# Altium footprint library CONN_HDR_2.54MM_ST.PcbLib: 159 footprints (part 9 of 13)
Each footprint in its own frame and in the unit in brackets; x right, y up, seen from the top. Pads: shape width x height; smd on the part's side, far side on the other; paste and mask are expansions set on the pad; w line width, h text height; cw(c..) or ccw(c..) is an arc to the next point about the centre after c.
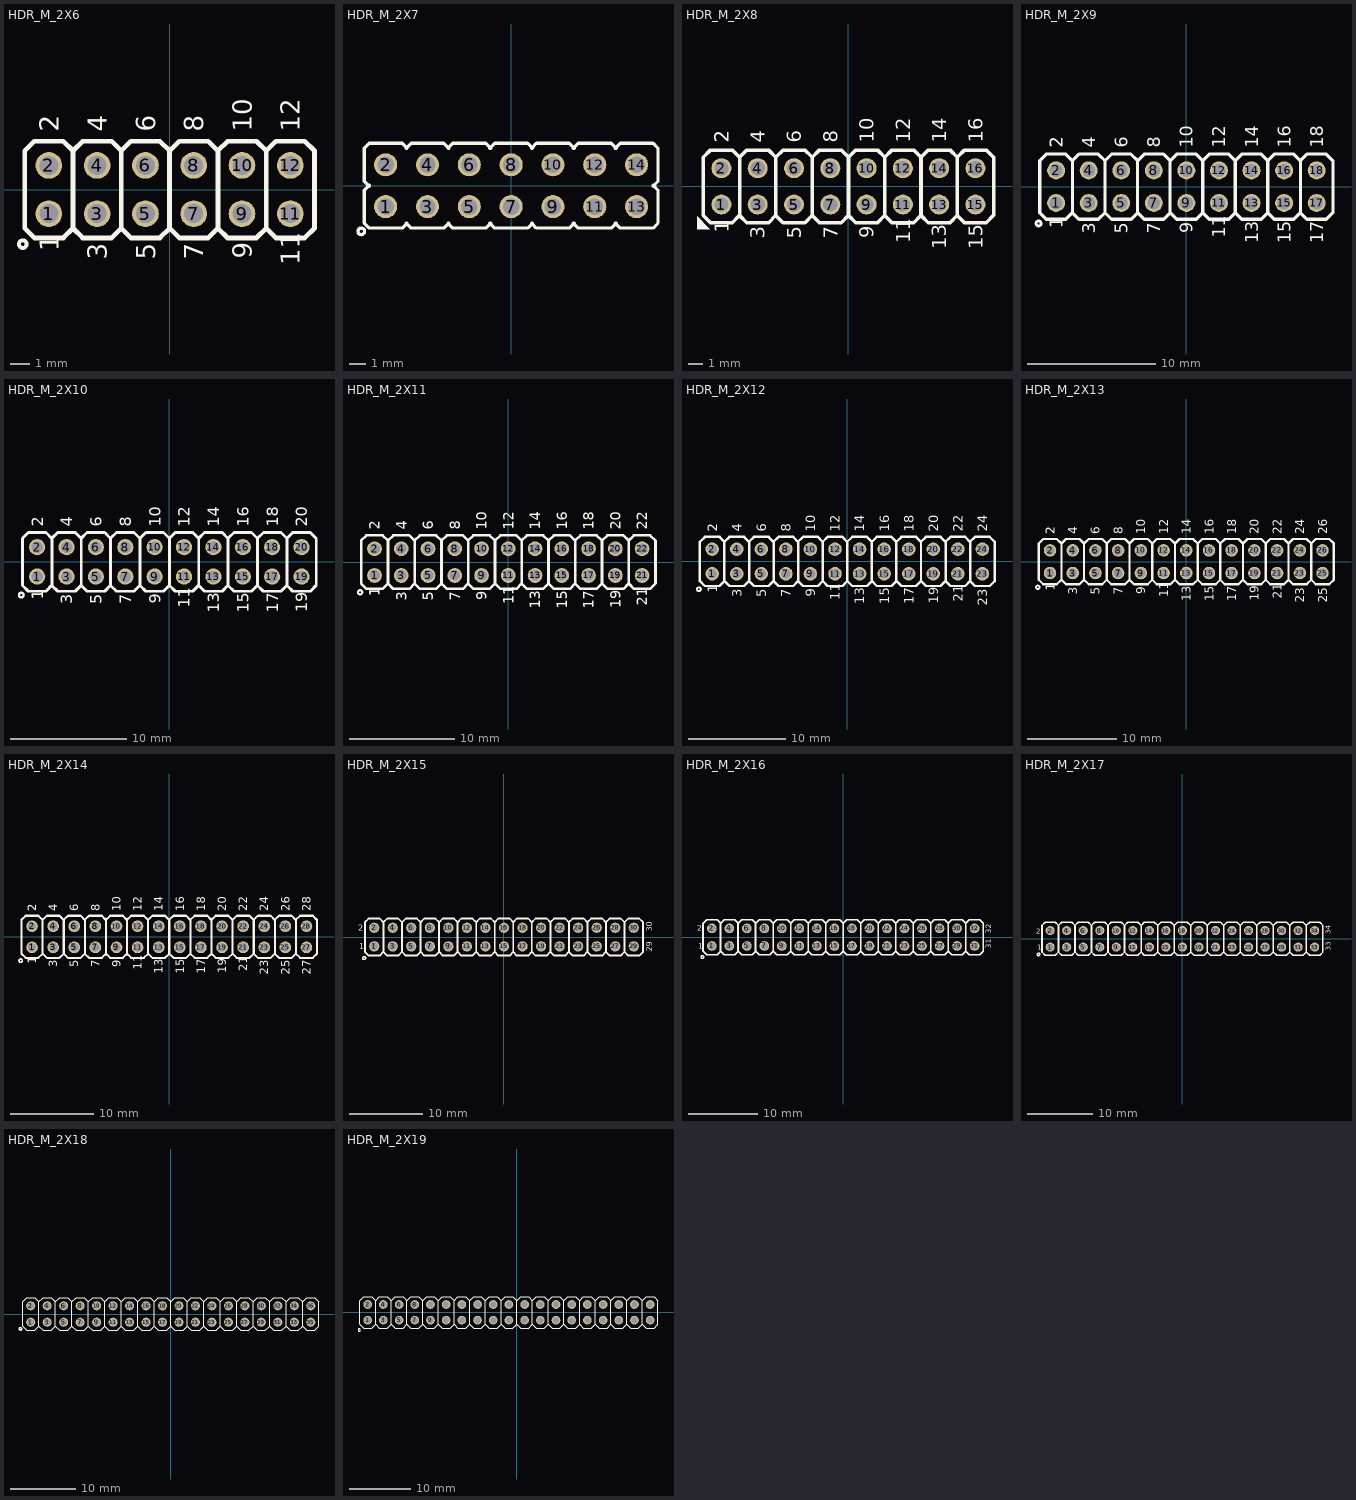
[diagram p8: the footprints below, top view; thin cyan lines are the x and y axes]

## HDR_M_2X6 [mm] "Male Header 2X06 with 2.54 mm Pitch"
pads (12):
  round 1.4 / inner round 1.4 / far side oval 1.4x2.2 hole 1: 1(-6.35,-1.27) 2(-6.35,1.27) 3(-3.81,-1.27) 4(-3.81,1.27) 5(-1.27,-1.27) 6(-1.27,1.27) 7(1.27,-1.27) 8(1.27,1.27) 9(3.81,-1.27) 10(3.81,1.27) 11(6.35,-1.27) 12(6.35,1.27)
TopOverlay:
  circle w0.2: c-7.72,-2.87 r0.2
  lines w0.254: -5.08,-2.032 -4.573,-2.538 -3.048,-2.538 -2.54,-2.03 -2.54,2.034 -2.032,2.542 -0.509,2.542 0,2.032 ; -5.08,2.032 -5.589,2.542 -7.112,2.542 -7.62,2.034 -7.62,-2.032 -7.113,-2.538 -5.588,-2.538 -5.08,-2.03 -5.08,2.034 -4.572,2.542 -3.049,2.542 -2.54,2.032 ; -2.54,-2.032 -2.033,-2.538 -0.508,-2.538 0,-2.03 0,2.034 0.508,2.542 2.031,2.542 2.54,2.032 ; 0,-2.032 0.507,-2.538 2.032,-2.538 2.54,-2.03 2.54,2.034 3.048,2.542 4.571,2.542 5.08,2.032 ; 2.54,-2.032 3.047,-2.538 4.572,-2.538 5.08,-2.03 5.08,2.034 5.588,2.542 7.111,2.542 7.62,2.032 ; 5.08,-2.032 5.587,-2.538 7.112,-2.538 7.62,-2.03 7.62,2.034
  text "1" at -5.842,-3.253 h1
  text "2" at -5.842,3.048 h1
  text "2" at -5.842,3.048 h1
  text "1" at -5.842,-3.253 h1
  text "4" at -3.302,3.048 h1
  text "3" at -3.302,-3.682 h1
  text "6" at -0.762,3.048 h1
  text "5" at -0.762,-3.682 h1
  text "8" at 1.778,3.048 h1
  text "7" at 1.778,-3.682 h1
  text "10" at 4.318,3.048 h1
  text "9" at 4.318,-3.634 h1
  text "12" at 6.858,3.048 h1
  text "11" at 6.858,-3.986 h1
3D body "PIN.STEP": height 8.43, standoff -2.49, extent -7.62,-2.54 -5.08,0
3D body "PIN_mid.STEP": height 8.43, standoff -2.49, extent -2.54,0 0,2.54
3D body "PIN_mid.STEP": height 8.43, standoff -2.49, extent 0,0 2.54,2.54
3D body "PIN_mid.STEP": height 8.43, standoff -2.49, extent 2.54,0 5.08,2.54
3D body "PIN_mid.STEP": height 8.43, standoff -2.49, extent -5.08,0 -2.54,2.54
3D body "PIN_mid.STEP": height 8.43, standoff -2.49, extent -5.08,-2.54 -2.54,0
3D body "PIN_mid.STEP": height 8.43, standoff -2.49, extent -2.54,-2.54 0,0
3D body "PIN_mid.STEP": height 8.43, standoff -2.49, extent 0,-2.54 2.54,0
3D body "PIN_mid.STEP": height 8.43, standoff -2.49, extent 2.54,-2.54 5.08,0
3D body "PIN.STEP": height 8.43, standoff -2.49, extent -7.62,0 -5.08,2.54
3D body "PIN.STEP": height 8.43, standoff -2.49, extent 5.08,0 7.62,2.54
3D body "PIN.STEP": height 8.43, standoff -2.49, extent 5.08,-2.54 7.62,0

## HDR_M_2X7 [mm] "Male Header 2X07 with 2.54 mm Pitch"
pads (14):
  round 1.4 / inner round 1.4 / far side oval 1.4x2.2 hole 1 mask+0.1: 1(-7.62,-1.27) 2(-7.62,1.27) 3(-5.08,-1.27) 4(-5.08,1.27) 5(-2.54,-1.27) 6(-2.54,1.27) 7(0,-1.27) 8(0,1.27) 9(2.54,-1.27) 10(2.54,1.27) 11(5.08,-1.27) 12(5.08,1.27) 13(7.62,-1.27) 14(7.62,1.27)
TopOverlay:
  circle w0.2: c-9.1,-2.77 r0.2
  lines w0.2: -8.62,-0.03 -8.92,0.27 -8.92,2.27 -8.62,2.57 -6.62,2.57 -6.32,2.27 ; -8.62,0.03 -8.92,-0.27 -8.92,-2.27 -8.62,-2.57 -6.62,-2.57 -6.32,-2.27 ; -6.38,-2.27 -6.08,-2.57 -4.08,-2.57 -3.78,-2.27 ; -6.38,2.27 -6.08,2.57 -4.08,2.57 -3.78,2.27 ; -3.84,-2.27 -3.54,-2.57 -1.54,-2.57 -1.24,-2.27 ; -3.84,2.27 -3.54,2.57 -1.54,2.57 -1.24,2.27 ; -1.3,-2.27 -1,-2.57 1,-2.57 1.3,-2.27 ; -1.3,2.27 -1,2.57 1,2.57 1.3,2.27 ; 1.24,-2.27 1.54,-2.57 3.54,-2.57 3.84,-2.27 ; 1.24,2.27 1.54,2.57 3.54,2.57 3.84,2.27 ; 3.78,-2.27 4.08,-2.57 6.08,-2.57 6.38,-2.27 ; 3.78,2.27 4.08,2.57 6.08,2.57 6.38,2.27 ; 6.32,-2.27 6.62,-2.57 8.62,-2.57 8.92,-2.27 8.92,-0.27 8.62,0.03 ; 6.32,2.27 6.62,2.57 8.62,2.57 8.92,2.27 8.92,0.27 8.62,-0.03
3D body "User Library-Header_Male_7Pin.STEP": height 8.54, standoff -3, extent -8.89,-2.57 8.89,-0.08
3D body "User Library-Header_Male_7Pin.STEP": height 8.54, standoff -3, extent -8.89,-0.03 8.89,2.46

## HDR_M_2X8 [mm] "Male Header 2X08 with 2.54 mm Pitch"
pads (16):
  round 1.4 / inner round 1.4 / far side oval 1.4x2.2 hole 1: 1(-8.89,-1.27) 2(-8.89,1.27) 3(-6.35,-1.27) 4(-6.35,1.27) 5(-3.81,-1.27) 6(-3.81,1.27) 7(-1.27,-1.27) 8(-1.27,1.27) 9(1.27,-1.27) 10(1.27,1.27) 11(3.81,-1.27) 12(3.81,1.27) 13(6.35,-1.27) 14(6.35,1.27) 15(8.89,-1.27) 16(8.89,1.27)
TopOverlay:
  region: -10.6,-2.1 -10.6,-3 -9.7,-3
  lines w0.254: -7.62,-2.032 -7.113,-2.538 -5.588,-2.538 -5.08,-2.03 -5.08,2.034 -4.572,2.542 -3.049,2.542 -2.54,2.032 ; -7.62,2.032 -8.129,2.542 -9.652,2.542 -10.16,2.034 -10.16,-2.032 -9.653,-2.538 -8.128,-2.538 -7.62,-2.03 -7.62,2.034 -7.112,2.542 -5.589,2.542 -5.08,2.032 ; -5.08,-2.032 -4.573,-2.538 -3.048,-2.538 -2.54,-2.03 -2.54,2.034 -2.032,2.542 -0.509,2.542 0,2.032 ; -2.54,-2.032 -2.033,-2.538 -0.508,-2.538 0,-2.03 0,2.034 0.508,2.542 2.031,2.542 2.54,2.032 ; 0,-2.032 0.507,-2.538 2.032,-2.538 2.54,-2.03 2.54,2.034 3.048,2.542 4.571,2.542 5.08,2.032 ; 2.54,-2.032 3.047,-2.538 4.572,-2.538 5.08,-2.03 5.08,2.034 5.588,2.542 7.111,2.542 7.62,2.032 ; 5.08,-2.032 5.587,-2.538 7.112,-2.538 7.62,-2.03 7.62,2.034 8.128,2.542 9.651,2.542 10.16,2.032 ; 7.62,-2.032 8.127,-2.538 9.652,-2.538 10.16,-2.03 10.16,2.034
  text "15" at 9.398,-4.415 h1
  text "16" at 9.398,3.048 h1
  text "13" at 6.858,-4.415 h1
  text "14" at 6.858,3.048 h1
  text "11" at 4.318,-3.986 h1
  text "12" at 4.318,3.048 h1
  text "9" at 1.778,-3.634 h1
  text "10" at 1.778,3.048 h1
  text "7" at -0.762,-3.682 h1
  text "8" at -0.762,3.048 h1
  text "5" at -3.302,-3.682 h1
  text "6" at -3.302,3.048 h1
  text "3" at -5.842,-3.682 h1
  text "4" at -5.842,3.048 h1
  text "1" at -8.382,-3.253 h1
  text "2" at -8.382,3.048 h1
  text "2" at -8.382,3.048 h1
  text "1" at -8.382,-3.253 h1
3D body "PIN.STEP": height 8.43, standoff -2.49, extent -10.16,-2.54 -7.62,0
3D body "PIN_mid.STEP": height 8.43, standoff -2.49, extent -5.08,0 -2.54,2.54
3D body "PIN_mid.STEP": height 8.43, standoff -2.49, extent -2.54,0 0,2.54
3D body "PIN_mid.STEP": height 8.43, standoff -2.49, extent 0,0 2.54,2.54
3D body "PIN_mid.STEP": height 8.43, standoff -2.49, extent 2.54,0 5.08,2.54
3D body "PIN_mid.STEP": height 8.43, standoff -2.49, extent 5.08,0 7.62,2.54
3D body "PIN_mid.STEP": height 8.43, standoff -2.49, extent -7.62,0 -5.08,2.54
3D body "PIN_mid.STEP": height 8.43, standoff -2.49, extent -7.62,-2.54 -5.08,0
3D body "PIN_mid.STEP": height 8.43, standoff -2.49, extent -5.08,-2.54 -2.54,0
3D body "PIN_mid.STEP": height 8.43, standoff -2.49, extent -2.54,-2.54 0,0
3D body "PIN_mid.STEP": height 8.43, standoff -2.49, extent 0,-2.54 2.54,0
3D body "PIN_mid.STEP": height 8.43, standoff -2.49, extent 2.54,-2.54 5.08,0
3D body "PIN_mid.STEP": height 8.43, standoff -2.49, extent 5.08,-2.54 7.62,0
3D body "PIN.STEP": height 8.43, standoff -2.49, extent -10.16,0 -7.62,2.54
3D body "PIN.STEP": height 8.43, standoff -2.49, extent 7.62,0 10.16,2.54
3D body "PIN.STEP": height 8.43, standoff -2.49, extent 7.62,-2.54 10.16,0

## HDR_M_2X9 [mm] "Male Header 2X09 with 2.54 mm Pitch"
pads (18):
  round 1.4 / inner round 1.4 / far side oval 1.4x2.2 hole 1: 1(-10.16,-1.27) 2(-10.16,1.27) 3(-7.62,-1.27) 4(-7.62,1.27) 5(-5.08,-1.27) 6(-5.08,1.27) 7(-2.54,-1.27) 8(-2.54,1.27) 9(0,-1.27) 10(0,1.27) 11(2.54,-1.27) 12(2.54,1.27) 13(5.08,-1.27) 14(5.08,1.27) 15(7.62,-1.27) 16(7.62,1.27) 17(10.16,-1.27) 18(10.16,1.27)
TopOverlay:
  circle w0.2: c-11.53,-2.87 r0.2
  lines w0.254: -8.89,-2.032 -8.383,-2.538 -6.858,-2.538 -6.35,-2.03 -6.35,2.034 -5.842,2.542 -4.319,2.542 -3.81,2.032 ; -8.89,2.032 -9.399,2.542 -10.922,2.542 -11.43,2.034 -11.43,-2.032 -10.923,-2.538 -9.398,-2.538 -8.89,-2.03 -8.89,2.034 -8.382,2.542 -6.859,2.542 -6.35,2.032 ; -6.35,-2.032 -5.843,-2.538 -4.318,-2.538 -3.81,-2.03 -3.81,2.034 -3.302,2.542 -1.779,2.542 -1.27,2.032 ; -3.81,-2.032 -3.303,-2.538 -1.778,-2.538 -1.27,-2.03 -1.27,2.034 -0.762,2.542 0.761,2.542 1.27,2.032 ; -1.27,-2.032 -0.763,-2.538 0.762,-2.538 1.27,-2.03 1.27,2.034 1.778,2.542 3.301,2.542 3.81,2.032 ; 1.27,-2.032 1.777,-2.538 3.302,-2.538 3.81,-2.03 3.81,2.034 4.318,2.542 5.841,2.542 6.35,2.032 ; 3.81,-2.032 4.317,-2.538 5.842,-2.538 6.35,-2.03 6.35,2.034 6.858,2.542 8.381,2.542 8.89,2.032 ; 6.35,-2.032 6.857,-2.538 8.382,-2.538 8.89,-2.03 8.89,2.034 9.398,2.542 10.921,2.542 11.43,2.032 ; 8.89,-2.032 9.397,-2.538 10.922,-2.538 11.43,-2.03 11.43,2.034
  text "17" at 10.668,-4.415 h1
  text "18" at 10.668,3.048 h1
  text "15" at 8.128,-4.415 h1
  text "16" at 8.128,3.048 h1
  text "13" at 5.588,-4.415 h1
  text "14" at 5.588,3.048 h1
  text "11" at 3.048,-3.986 h1
  text "12" at 3.048,3.048 h1
  text "9" at 0.508,-3.634 h1
  text "10" at 0.508,3.048 h1
  text "7" at -2.032,-3.682 h1
  text "8" at -2.032,3.048 h1
  text "5" at -4.572,-3.682 h1
  text "6" at -4.572,3.048 h1
  text "3" at -7.112,-3.682 h1
  text "4" at -7.112,3.048 h1
  text "1" at -9.652,-3.253 h1
  text "2" at -9.652,3.048 h1
  text "2" at -9.652,3.048 h1
  text "1" at -9.652,-3.253 h1
3D body "PIN.STEP": height 8.43, standoff -2.49, extent -11.43,-2.54 -8.89,0
3D body "PIN_mid.STEP": height 8.43, standoff -2.49, extent -6.35,0 -3.81,2.54
3D body "PIN_mid.STEP": height 8.43, standoff -2.49, extent -3.81,0 -1.27,2.54
3D body "PIN_mid.STEP": height 8.43, standoff -2.49, extent -1.27,0 1.27,2.54
3D body "PIN_mid.STEP": height 8.43, standoff -2.49, extent 1.27,0 3.81,2.54
3D body "PIN_mid.STEP": height 8.43, standoff -2.49, extent 3.81,0 6.35,2.54
3D body "PIN_mid.STEP": height 8.43, standoff -2.49, extent 6.35,0 8.89,2.54
3D body "PIN_mid.STEP": height 8.43, standoff -2.49, extent -8.89,0 -6.35,2.54
3D body "PIN_mid.STEP": height 8.43, standoff -2.49, extent -8.89,-2.54 -6.35,0
3D body "PIN_mid.STEP": height 8.43, standoff -2.49, extent -6.35,-2.54 -3.81,0
3D body "PIN_mid.STEP": height 8.43, standoff -2.49, extent -3.81,-2.54 -1.27,0
3D body "PIN_mid.STEP": height 8.43, standoff -2.49, extent -1.27,-2.54 1.27,0
3D body "PIN_mid.STEP": height 8.43, standoff -2.49, extent 1.27,-2.54 3.81,0
3D body "PIN_mid.STEP": height 8.43, standoff -2.49, extent 3.81,-2.54 6.35,0
3D body "PIN_mid.STEP": height 8.43, standoff -2.49, extent 6.35,-2.54 8.89,0
3D body "PIN.STEP": height 8.43, standoff -2.49, extent -11.43,0 -8.89,2.54
3D body "PIN.STEP": height 8.43, standoff -2.49, extent 8.89,0 11.43,2.54
3D body "PIN.STEP": height 8.43, standoff -2.49, extent 8.89,-2.54 11.43,0

## HDR_M_2X10 [mm] "Male Header 2X10 with 2.54 mm Pitch"
pads (20):
  round 1.4 / inner round 1.4 / far side oval 1.4x2.2 hole 1: 1(-11.43,-1.27) 2(-11.43,1.27) 3(-8.89,-1.27) 4(-8.89,1.27) 5(-6.35,-1.27) 6(-6.35,1.27) 7(-3.81,-1.27) 8(-3.81,1.27) 9(-1.27,-1.27) 10(-1.27,1.27) 11(1.27,-1.27) 12(1.27,1.27) 13(3.81,-1.27) 14(3.81,1.27) 15(6.35,-1.27) 16(6.35,1.27) 17(8.89,-1.27) 18(8.89,1.27) 19(11.43,-1.27) 20(11.43,1.27)
TopOverlay:
  circle w0.2: c-12.8,-2.87 r0.2
  lines w0.254: -10.16,-2.032 -9.653,-2.538 -8.128,-2.538 -7.62,-2.03 -7.62,2.034 -7.112,2.542 -5.589,2.542 -5.08,2.032 ; -10.16,2.032 -10.669,2.542 -12.192,2.542 -12.7,2.034 -12.7,-2.032 -12.193,-2.538 -10.668,-2.538 -10.16,-2.03 -10.16,2.034 -9.652,2.542 -8.129,2.542 -7.62,2.032 ; -7.62,-2.032 -7.113,-2.538 -5.588,-2.538 -5.08,-2.03 -5.08,2.034 -4.572,2.542 -3.049,2.542 -2.54,2.032 ; -5.08,-2.032 -4.573,-2.538 -3.048,-2.538 -2.54,-2.03 -2.54,2.034 -2.032,2.542 -0.509,2.542 0,2.032 ; -2.54,-2.032 -2.033,-2.538 -0.508,-2.538 0,-2.03 0,2.034 0.508,2.542 2.031,2.542 2.54,2.032 ; 0,-2.032 0.507,-2.538 2.032,-2.538 2.54,-2.03 2.54,2.034 3.048,2.542 4.571,2.542 5.08,2.032 ; 2.54,-2.032 3.047,-2.538 4.572,-2.538 5.08,-2.03 5.08,2.034 5.588,2.542 7.111,2.542 7.62,2.032 ; 5.08,-2.032 5.587,-2.538 7.112,-2.538 7.62,-2.03 7.62,2.034 8.128,2.542 9.651,2.542 10.16,2.032 ; 7.62,-2.032 8.127,-2.538 9.652,-2.538 10.16,-2.03 10.16,2.034 10.668,2.542 12.191,2.542 12.7,2.032 ; 10.16,-2.032 10.667,-2.538 12.192,-2.538 12.7,-2.03 12.7,2.034
  text "6" at -5.842,3.048 h1
  text "1" at -10.922,-3.253 h1
  text "2" at -10.922,3.048 h1
  text "1" at -10.922,-3.253 h1
  text "4" at -8.382,3.048 h1
  text "3" at -8.382,-3.682 h1
  text "5" at -5.842,-3.682 h1
  text "8" at -3.302,3.048 h1
  text "7" at -3.302,-3.682 h1
  text "10" at -0.762,3.048 h1
  text "9" at -0.762,-3.634 h1
  text "12" at 1.778,3.048 h1
  text "11" at 1.778,-3.986 h1
  text "14" at 4.318,3.048 h1
  text "13" at 4.318,-4.415 h1
  text "16" at 6.858,3.048 h1
  text "15" at 6.858,-4.415 h1
  text "18" at 9.398,3.048 h1
  text "17" at 9.398,-4.415 h1
  text "20" at 11.938,3.048 h1
  text "19" at 11.938,-4.367 h1
3D body "PIN.STEP": height 8.43, standoff -2.49, extent -12.7,-2.54 -10.16,0
3D body "PIN_mid.STEP": height 8.43, standoff -2.49, extent -7.62,0 -5.08,2.54
3D body "PIN_mid.STEP": height 8.43, standoff -2.49, extent -5.08,0 -2.54,2.54
3D body "PIN_mid.STEP": height 8.43, standoff -2.49, extent -2.54,0 0,2.54
3D body "PIN_mid.STEP": height 8.43, standoff -2.49, extent 0,0 2.54,2.54
3D body "PIN_mid.STEP": height 8.43, standoff -2.49, extent 2.54,0 5.08,2.54
3D body "PIN_mid.STEP": height 8.43, standoff -2.49, extent 5.08,0 7.62,2.54
3D body "PIN_mid.STEP": height 8.43, standoff -2.49, extent 7.62,0 10.16,2.54
3D body "PIN_mid.STEP": height 8.43, standoff -2.49, extent -10.16,0 -7.62,2.54
3D body "PIN_mid.STEP": height 8.43, standoff -2.49, extent -10.16,-2.54 -7.62,0
3D body "PIN_mid.STEP": height 8.43, standoff -2.49, extent -7.62,-2.54 -5.08,0
3D body "PIN_mid.STEP": height 8.43, standoff -2.49, extent -5.08,-2.54 -2.54,0
3D body "PIN_mid.STEP": height 8.43, standoff -2.49, extent -2.54,-2.54 0,0
3D body "PIN_mid.STEP": height 8.43, standoff -2.49, extent 0,-2.54 2.54,0
3D body "PIN_mid.STEP": height 8.43, standoff -2.49, extent 2.54,-2.54 5.08,0
3D body "PIN_mid.STEP": height 8.43, standoff -2.49, extent 5.08,-2.54 7.62,0
3D body "PIN_mid.STEP": height 8.43, standoff -2.49, extent 7.62,-2.54 10.16,0
3D body "PIN.STEP": height 8.43, standoff -2.49, extent -12.7,0 -10.16,2.54
3D body "PIN.STEP": height 8.43, standoff -2.49, extent 10.16,0 12.7,2.54
3D body "PIN.STEP": height 8.43, standoff -2.49, extent 10.16,-2.54 12.7,0

## HDR_M_2X11 [mm] "Male Header 2X11 with 2.54 mm Pitch"
pads (22):
  round 1.4 / inner round 1.4 / far side oval 1.4x2.2 hole 1: 1(-12.7,-1.27) 2(-12.7,1.27) 3(-10.16,-1.27) 4(-10.16,1.27) 5(-7.62,-1.27) 6(-7.62,1.27) 7(-5.08,-1.27) 8(-5.08,1.27) 9(-2.54,-1.27) 10(-2.54,1.27) 11(0,-1.27) 12(0,1.27) 13(2.54,-1.27) 14(2.54,1.27) 15(5.08,-1.27) 16(5.08,1.27) 17(7.62,-1.27) 18(7.62,1.27) 19(10.16,-1.27) 20(10.16,1.27) 21(12.7,-1.27) 22(12.7,1.27)
TopOverlay:
  circle w0.2: c-14.07,-2.87 r0.2
  lines w0.254: -11.43,-2.032 -10.923,-2.538 -9.398,-2.538 -8.89,-2.03 -8.89,2.034 -8.382,2.542 -6.859,2.542 -6.35,2.032 ; -11.43,2.032 -11.939,2.542 -13.462,2.542 -13.97,2.034 -13.97,-2.032 -13.463,-2.538 -11.938,-2.538 -11.43,-2.03 -11.43,2.034 -10.922,2.542 -9.399,2.542 -8.89,2.032 ; -8.89,-2.032 -8.383,-2.538 -6.858,-2.538 -6.35,-2.03 -6.35,2.034 -5.842,2.542 -4.319,2.542 -3.81,2.032 ; -6.35,-2.032 -5.843,-2.538 -4.318,-2.538 -3.81,-2.03 -3.81,2.034 -3.302,2.542 -1.779,2.542 -1.27,2.032 ; -3.81,-2.032 -3.303,-2.538 -1.778,-2.538 -1.27,-2.03 -1.27,2.034 -0.762,2.542 0.761,2.542 1.27,2.032 ; -1.27,-2.032 -0.763,-2.538 0.762,-2.538 1.27,-2.03 1.27,2.034 1.778,2.542 3.301,2.542 3.81,2.032 ; 1.27,-2.032 1.777,-2.538 3.302,-2.538 3.81,-2.03 3.81,2.034 4.318,2.542 5.841,2.542 6.35,2.032 ; 3.81,-2.032 4.317,-2.538 5.842,-2.538 6.35,-2.03 6.35,2.034 6.858,2.542 8.381,2.542 8.89,2.032 ; 6.35,-2.032 6.857,-2.538 8.382,-2.538 8.89,-2.03 8.89,2.034 9.398,2.542 10.921,2.542 11.43,2.032 ; 8.89,-2.032 9.397,-2.538 10.922,-2.538 11.43,-2.03 11.43,2.034 11.938,2.542 13.461,2.542 13.97,2.032 ; 11.43,-2.032 11.937,-2.538 13.462,-2.538 13.97,-2.03 13.97,2.034
  text "21" at 13.208,-4.144 h1
  text "22" at 13.208,3.048 h1
  text "19" at 10.668,-4.367 h1
  text "20" at 10.668,3.048 h1
  text "17" at 8.128,-4.415 h1
  text "18" at 8.128,3.048 h1
  text "15" at 5.588,-4.415 h1
  text "16" at 5.588,3.048 h1
  text "13" at 3.048,-4.415 h1
  text "14" at 3.048,3.048 h1
  text "11" at 0.508,-3.986 h1
  text "12" at 0.508,3.048 h1
  text "9" at -2.032,-3.634 h1
  text "10" at -2.032,3.048 h1
  text "7" at -4.572,-3.682 h1
  text "8" at -4.572,3.048 h1
  text "5" at -7.112,-3.682 h1
  text "6" at -7.112,3.048 h1
  text "3" at -9.652,-3.682 h1
  text "4" at -9.652,3.048 h1
  text "1" at -12.192,-3.253 h1
  text "2" at -12.192,3.048 h1
  text "1" at -12.192,-3.253 h1
3D body "PIN.STEP": height 8.43, standoff -2.49, extent -13.97,-2.54 -11.43,0
3D body "PIN_mid.STEP": height 8.43, standoff -2.49, extent -8.89,0 -6.35,2.54
3D body "PIN_mid.STEP": height 8.43, standoff -2.49, extent -6.35,0 -3.81,2.54
3D body "PIN_mid.STEP": height 8.43, standoff -2.49, extent -3.81,0 -1.27,2.54
3D body "PIN_mid.STEP": height 8.43, standoff -2.49, extent -1.27,0 1.27,2.54
3D body "PIN_mid.STEP": height 8.43, standoff -2.49, extent 1.27,0 3.81,2.54
3D body "PIN_mid.STEP": height 8.43, standoff -2.49, extent 3.81,0 6.35,2.54
3D body "PIN_mid.STEP": height 8.43, standoff -2.49, extent 6.35,0 8.89,2.54
3D body "PIN_mid.STEP": height 8.43, standoff -2.49, extent 8.89,0 11.43,2.54
3D body "PIN_mid.STEP": height 8.43, standoff -2.49, extent -11.43,0 -8.89,2.54
3D body "PIN_mid.STEP": height 8.43, standoff -2.49, extent -11.43,-2.54 -8.89,0
3D body "PIN_mid.STEP": height 8.43, standoff -2.49, extent -8.89,-2.54 -6.35,0
3D body "PIN_mid.STEP": height 8.43, standoff -2.49, extent -6.35,-2.54 -3.81,0
3D body "PIN_mid.STEP": height 8.43, standoff -2.49, extent -3.81,-2.54 -1.27,0
3D body "PIN_mid.STEP": height 8.43, standoff -2.49, extent -1.27,-2.54 1.27,0
3D body "PIN_mid.STEP": height 8.43, standoff -2.49, extent 1.27,-2.54 3.81,0
3D body "PIN_mid.STEP": height 8.43, standoff -2.49, extent 3.81,-2.54 6.35,0
3D body "PIN_mid.STEP": height 8.43, standoff -2.49, extent 6.35,-2.54 8.89,0
3D body "PIN_mid.STEP": height 8.43, standoff -2.49, extent 8.89,-2.54 11.43,0
3D body "PIN.STEP": height 8.43, standoff -2.49, extent -13.97,0 -11.43,2.54
3D body "PIN.STEP": height 8.43, standoff -2.49, extent 11.43,0 13.97,2.54
3D body "PIN.STEP": height 8.43, standoff -2.49, extent 11.43,-2.54 13.97,0

## HDR_M_2X12 [mm] "Male Header 2X12 with 2.54 mm Pitch"
pads (24):
  round 1.4 / inner round 1.4 / far side oval 1.4x2.2 hole 1: 1(-13.97,-1.27) 2(-13.97,1.27) 3(-11.43,-1.27) 4(-11.43,1.27) 5(-8.89,-1.27) 6(-8.89,1.27) 7(-6.35,-1.27) 8(-6.35,1.27) 9(-3.81,-1.27) 10(-3.81,1.27) 11(-1.27,-1.27) 12(-1.27,1.27) 13(1.27,-1.27) 14(1.27,1.27) 15(3.81,-1.27) 16(3.81,1.27) 17(6.35,-1.27) 18(6.35,1.27) 19(8.89,-1.27) 20(8.89,1.27) 21(11.43,-1.27) 22(11.43,1.27) 23(13.97,-1.27) 24(13.97,1.27)
TopOverlay:
  circle w0.2: c-15.34,-2.87 r0.2
  lines w0.254: -12.7,-2.032 -12.193,-2.538 -10.668,-2.538 -10.16,-2.03 -10.16,2.034 -9.652,2.542 -8.129,2.542 -7.62,2.032 ; -12.7,2.032 -13.209,2.542 -14.732,2.542 -15.24,2.034 -15.24,-2.032 -14.733,-2.538 -13.208,-2.538 -12.7,-2.03 -12.7,2.034 -12.192,2.542 -10.669,2.542 -10.16,2.032 ; -10.16,-2.032 -9.653,-2.538 -8.128,-2.538 -7.62,-2.03 -7.62,2.034 -7.112,2.542 -5.589,2.542 -5.08,2.032 ; -7.62,-2.032 -7.113,-2.538 -5.588,-2.538 -5.08,-2.03 -5.08,2.034 -4.572,2.542 -3.049,2.542 -2.54,2.032 ; -5.08,-2.032 -4.573,-2.538 -3.048,-2.538 -2.54,-2.03 -2.54,2.034 -2.032,2.542 -0.509,2.542 0,2.032 ; -2.54,-2.032 -2.033,-2.538 -0.508,-2.538 0,-2.03 0,2.034 0.508,2.542 2.031,2.542 2.54,2.032 ; 0,-2.032 0.507,-2.538 2.032,-2.538 2.54,-2.03 2.54,2.034 3.048,2.542 4.571,2.542 5.08,2.032 ; 2.54,-2.032 3.047,-2.538 4.572,-2.538 5.08,-2.03 5.08,2.034 5.588,2.542 7.111,2.542 7.62,2.032 ; 5.08,-2.032 5.587,-2.538 7.112,-2.538 7.62,-2.03 7.62,2.034 8.128,2.542 9.651,2.542 10.16,2.032 ; 7.62,-2.032 8.127,-2.538 9.652,-2.538 10.16,-2.03 10.16,2.034 10.668,2.542 12.191,2.542 12.7,2.032 ; 10.16,-2.032 10.667,-2.538 12.192,-2.538 12.7,-2.03 12.7,2.034 13.208,2.542 14.731,2.542 15.24,2.032 ; 12.7,-2.032 13.207,-2.538 14.732,-2.538 15.24,-2.03 15.24,2.034
  text "1" at -13.462,-3.253 h1
  text "2" at -13.462,3.048 h1
  text "2" at -13.462,3.048 h1
  text "1" at -13.462,-3.253 h1
  text "4" at -10.922,3.048 h1
  text "3" at -10.922,-3.682 h1
  text "6" at -8.382,3.048 h1
  text "5" at -8.382,-3.682 h1
  text "8" at -5.842,3.048 h1
  text "7" at -5.842,-3.682 h1
  text "10" at -3.302,3.048 h1
  text "9" at -3.302,-3.634 h1
  text "12" at -0.762,3.048 h1
  text "11" at -0.762,-3.986 h1
  text "14" at 1.778,3.048 h1
  text "13" at 1.778,-4.415 h1
  text "16" at 4.318,3.048 h1
  text "15" at 4.318,-4.415 h1
  text "18" at 6.858,3.048 h1
  text "17" at 6.858,-4.415 h1
  text "20" at 9.398,3.048 h1
  text "19" at 9.398,-4.367 h1
  text "22" at 11.938,3.048 h1
  text "21" at 11.938,-4.144 h1
  text "24" at 14.478,3.048 h1
  text "23" at 14.478,-4.572 h1
3D body "PIN.STEP": height 8.43, standoff -2.49, extent 12.7,-2.54 15.24,0
3D body "PIN.STEP": height 8.43, standoff -2.49, extent 12.7,0 15.24,2.54
3D body "PIN.STEP": height 8.43, standoff -2.49, extent -15.24,0 -12.7,2.54
3D body "PIN_mid.STEP": height 8.43, standoff -2.49, extent 10.16,-2.54 12.7,0
3D body "PIN_mid.STEP": height 8.43, standoff -2.49, extent 7.62,-2.54 10.16,0
3D body "PIN_mid.STEP": height 8.43, standoff -2.49, extent 5.08,-2.54 7.62,0
3D body "PIN_mid.STEP": height 8.43, standoff -2.49, extent 2.54,-2.54 5.08,0
3D body "PIN_mid.STEP": height 8.43, standoff -2.49, extent 0,-2.54 2.54,0
3D body "PIN_mid.STEP": height 8.43, standoff -2.49, extent -2.54,-2.54 0,0
3D body "PIN_mid.STEP": height 8.43, standoff -2.49, extent -5.08,-2.54 -2.54,0
3D body "PIN_mid.STEP": height 8.43, standoff -2.49, extent -7.62,-2.54 -5.08,0
3D body "PIN_mid.STEP": height 8.43, standoff -2.49, extent -10.16,-2.54 -7.62,0
3D body "PIN_mid.STEP": height 8.43, standoff -2.49, extent -12.7,-2.54 -10.16,0
3D body "PIN_mid.STEP": height 8.43, standoff -2.49, extent -12.7,0 -10.16,2.54
3D body "PIN_mid.STEP": height 8.43, standoff -2.49, extent 10.16,0 12.7,2.54
3D body "PIN_mid.STEP": height 8.43, standoff -2.49, extent 7.62,0 10.16,2.54
3D body "PIN_mid.STEP": height 8.43, standoff -2.49, extent 5.08,0 7.62,2.54
3D body "PIN_mid.STEP": height 8.43, standoff -2.49, extent 2.54,0 5.08,2.54
3D body "PIN_mid.STEP": height 8.43, standoff -2.49, extent 0,0 2.54,2.54
3D body "PIN_mid.STEP": height 8.43, standoff -2.49, extent -2.54,0 0,2.54
3D body "PIN_mid.STEP": height 8.43, standoff -2.49, extent -5.08,0 -2.54,2.54
3D body "PIN_mid.STEP": height 8.43, standoff -2.49, extent -7.62,0 -5.08,2.54
3D body "PIN_mid.STEP": height 8.43, standoff -2.49, extent -10.16,0 -7.62,2.54
3D body "PIN.STEP": height 8.43, standoff -2.49, extent -15.24,-2.54 -12.7,0

## HDR_M_2X13 [mm] "Male Header 2X13 with 2.54 mm Pitch"
pads (26):
  round 1.4 / inner round 1.4 / far side oval 1.4x2.2 hole 1: 1(-15.24,-1.27) 2(-15.24,1.27) 3(-12.7,-1.27) 4(-12.7,1.27) 5(-10.16,-1.27) 6(-10.16,1.27) 7(-7.62,-1.27) 8(-7.62,1.27) 9(-5.08,-1.27) 10(-5.08,1.27) 11(-2.54,-1.27) 12(-2.54,1.27) 13(0,-1.27) 14(0,1.27) 15(2.54,-1.27) 16(2.54,1.27) 17(5.08,-1.27) 18(5.08,1.27) 19(7.62,-1.27) 20(7.62,1.27) 21(10.16,-1.27) 22(10.16,1.27) 23(12.7,-1.27) 24(12.7,1.27) 25(15.24,-1.27) 26(15.24,1.27)
TopOverlay:
  circle w0.2: c-16.61,-2.87 r0.2
  lines w0.254: -13.97,-2.032 -13.463,-2.538 -11.938,-2.538 -11.43,-2.03 -11.43,2.034 -10.922,2.542 -9.399,2.542 -8.89,2.032 ; -13.97,2.032 -14.479,2.542 -16.002,2.542 -16.51,2.034 -16.51,-2.032 -16.003,-2.538 -14.478,-2.538 -13.97,-2.03 -13.97,2.034 -13.462,2.542 -11.939,2.542 -11.43,2.032 ; -11.43,-2.032 -10.923,-2.538 -9.398,-2.538 -8.89,-2.03 -8.89,2.034 -8.382,2.542 -6.859,2.542 -6.35,2.032 ; -8.89,-2.032 -8.383,-2.538 -6.858,-2.538 -6.35,-2.03 -6.35,2.034 -5.842,2.542 -4.319,2.542 -3.81,2.032 ; -6.35,-2.032 -5.843,-2.538 -4.318,-2.538 -3.81,-2.03 -3.81,2.034 -3.302,2.542 -1.779,2.542 -1.27,2.032 ; -3.81,-2.032 -3.303,-2.538 -1.778,-2.538 -1.27,-2.03 -1.27,2.034 -0.762,2.542 0.761,2.542 1.27,2.032 ; -1.27,-2.032 -0.763,-2.538 0.762,-2.538 1.27,-2.03 1.27,2.034 1.778,2.542 3.301,2.542 3.81,2.032 ; 1.27,-2.032 1.777,-2.538 3.302,-2.538 3.81,-2.03 3.81,2.034 4.318,2.542 5.841,2.542 6.35,2.032 ; 3.81,-2.032 4.317,-2.538 5.842,-2.538 6.35,-2.03 6.35,2.034 6.858,2.542 8.381,2.542 8.89,2.032 ; 6.35,-2.032 6.857,-2.538 8.382,-2.538 8.89,-2.03 8.89,2.034 9.398,2.542 10.921,2.542 11.43,2.032 ; 8.89,-2.032 9.397,-2.538 10.922,-2.538 11.43,-2.03 11.43,2.034 11.938,2.542 13.461,2.542 13.97,2.032 ; 11.43,-2.032 11.937,-2.538 13.462,-2.538 13.97,-2.03 13.97,2.034 14.478,2.542 16.001,2.542 16.51,2.032 ; 13.97,-2.032 14.477,-2.538 16.002,-2.538 16.51,-2.03 16.51,2.034
  text "25" at 15.748,-4.572 h1
  text "26" at 15.748,3.048 h1
  text "23" at 13.208,-4.572 h1
  text "24" at 13.208,3.048 h1
  text "21" at 10.668,-4.144 h1
  text "22" at 10.668,3.048 h1
  text "19" at 8.128,-4.367 h1
  text "20" at 8.128,3.048 h1
  text "17" at 5.588,-4.415 h1
  text "18" at 5.588,3.048 h1
  text "15" at 3.048,-4.415 h1
  text "16" at 3.048,3.048 h1
  text "13" at 0.508,-4.415 h1
  text "14" at 0.508,3.048 h1
  text "11" at -2.032,-3.986 h1
  text "12" at -2.032,3.048 h1
  text "9" at -4.572,-3.634 h1
  text "10" at -4.572,3.048 h1
  text "7" at -7.112,-3.682 h1
  text "8" at -7.112,3.048 h1
  text "5" at -9.652,-3.682 h1
  text "6" at -9.652,3.048 h1
  text "3" at -12.192,-3.682 h1
  text "4" at -12.192,3.048 h1
  text "1" at -14.732,-3.253 h1
  text "2" at -14.732,3.048 h1
  text "2" at -14.732,3.048 h1
  text "1" at -14.732,-3.253 h1
3D body "PIN.STEP": height 8.43, standoff -2.49, extent -16.51,-2.54 -13.97,0
3D body "PIN_mid.STEP": height 8.43, standoff -2.49, extent -11.43,0 -8.89,2.54
3D body "PIN_mid.STEP": height 8.43, standoff -2.49, extent -8.89,0 -6.35,2.54
3D body "PIN_mid.STEP": height 8.43, standoff -2.49, extent -6.35,0 -3.81,2.54
3D body "PIN_mid.STEP": height 8.43, standoff -2.49, extent -3.81,0 -1.27,2.54
3D body "PIN_mid.STEP": height 8.43, standoff -2.49, extent -1.27,0 1.27,2.54
3D body "PIN_mid.STEP": height 8.43, standoff -2.49, extent 1.27,0 3.81,2.54
3D body "PIN_mid.STEP": height 8.43, standoff -2.49, extent 3.81,0 6.35,2.54
3D body "PIN_mid.STEP": height 8.43, standoff -2.49, extent 6.35,0 8.89,2.54
3D body "PIN_mid.STEP": height 8.43, standoff -2.49, extent 8.89,0 11.43,2.54
3D body "PIN_mid.STEP": height 8.43, standoff -2.49, extent 11.43,0 13.97,2.54
3D body "PIN_mid.STEP": height 8.43, standoff -2.49, extent -13.97,0 -11.43,2.54
3D body "PIN_mid.STEP": height 8.43, standoff -2.49, extent -13.97,-2.54 -11.43,0
3D body "PIN_mid.STEP": height 8.43, standoff -2.49, extent -11.43,-2.54 -8.89,0
3D body "PIN_mid.STEP": height 8.43, standoff -2.49, extent -8.89,-2.54 -6.35,0
3D body "PIN_mid.STEP": height 8.43, standoff -2.49, extent -6.35,-2.54 -3.81,0
3D body "PIN_mid.STEP": height 8.43, standoff -2.49, extent -3.81,-2.54 -1.27,0
3D body "PIN_mid.STEP": height 8.43, standoff -2.49, extent -1.27,-2.54 1.27,0
3D body "PIN_mid.STEP": height 8.43, standoff -2.49, extent 1.27,-2.54 3.81,0
3D body "PIN_mid.STEP": height 8.43, standoff -2.49, extent 3.81,-2.54 6.35,0
3D body "PIN_mid.STEP": height 8.43, standoff -2.49, extent 6.35,-2.54 8.89,0
3D body "PIN_mid.STEP": height 8.43, standoff -2.49, extent 8.89,-2.54 11.43,0
3D body "PIN_mid.STEP": height 8.43, standoff -2.49, extent 11.43,-2.54 13.97,0
3D body "PIN.STEP": height 8.43, standoff -2.49, extent -16.51,0 -13.97,2.54
3D body "PIN.STEP": height 8.43, standoff -2.49, extent 13.97,0 16.51,2.54
3D body "PIN.STEP": height 8.43, standoff -2.49, extent 13.97,-2.54 16.51,0

## HDR_M_2X14 [mm] "Male Header 2X14 with 2.54 mm Pitch"
pads (28):
  round 1.4 / inner round 1.4 / far side oval 1.4x2.2 hole 1: 1(-16.51,-1.27) 2(-16.51,1.27) 3(-13.97,-1.27) 4(-13.97,1.27) 5(-11.43,-1.27) 6(-11.43,1.27) 7(-8.89,-1.27) 8(-8.89,1.27) 9(-6.35,-1.27) 10(-6.35,1.27) 11(-3.81,-1.27) 12(-3.81,1.27) 13(-1.27,-1.27) 14(-1.27,1.27) 15(1.27,-1.27) 16(1.27,1.27) 17(3.81,-1.27) 18(3.81,1.27) 19(6.35,-1.27) 20(6.35,1.27) 21(8.89,-1.27) 22(8.89,1.27) 23(11.43,-1.27) 24(11.43,1.27) 25(13.97,-1.27) 26(13.97,1.27) 27(16.51,-1.27) 28(16.51,1.27)
TopOverlay:
  circle w0.2: c-17.88,-2.87 r0.2
  lines w0.254: -15.24,-2.032 -14.733,-2.538 -13.208,-2.538 -12.7,-2.03 -12.7,2.034 -12.192,2.542 -10.669,2.542 -10.16,2.032 ; -15.24,2.032 -15.749,2.542 -17.272,2.542 -17.78,2.034 -17.78,-2.032 -17.273,-2.538 -15.748,-2.538 -15.24,-2.03 -15.24,2.034 -14.732,2.542 -13.209,2.542 -12.7,2.032 ; -12.7,-2.032 -12.193,-2.538 -10.668,-2.538 -10.16,-2.03 -10.16,2.034 -9.652,2.542 -8.129,2.542 -7.62,2.032 ; -10.16,-2.032 -9.653,-2.538 -8.128,-2.538 -7.62,-2.03 -7.62,2.034 -7.112,2.542 -5.589,2.542 -5.08,2.032 ; -7.62,-2.032 -7.113,-2.538 -5.588,-2.538 -5.08,-2.03 -5.08,2.034 -4.572,2.542 -3.049,2.542 -2.54,2.032 ; -5.08,-2.032 -4.573,-2.538 -3.048,-2.538 -2.54,-2.03 -2.54,2.034 -2.032,2.542 -0.509,2.542 0,2.032 ; -2.54,-2.032 -2.033,-2.538 -0.508,-2.538 0,-2.03 0,2.034 0.508,2.542 2.031,2.542 2.54,2.032 ; 0,-2.032 0.507,-2.538 2.032,-2.538 2.54,-2.03 2.54,2.034 3.048,2.542 4.571,2.542 5.08,2.032 ; 2.54,-2.032 3.047,-2.538 4.572,-2.538 5.08,-2.03 5.08,2.034 5.588,2.542 7.111,2.542 7.62,2.032 ; 5.08,-2.032 5.587,-2.538 7.112,-2.538 7.62,-2.03 7.62,2.034 8.128,2.542 9.651,2.542 10.16,2.032 ; 7.62,-2.032 8.127,-2.538 9.652,-2.538 10.16,-2.03 10.16,2.034 10.668,2.542 12.191,2.542 12.7,2.032 ; 10.16,-2.032 10.667,-2.538 12.192,-2.538 12.7,-2.03 12.7,2.034 13.208,2.542 14.731,2.542 15.24,2.032 ; 12.7,-2.032 13.207,-2.538 14.732,-2.538 15.24,-2.03 15.24,2.034 15.748,2.542 17.271,2.542 17.78,2.032 ; 15.24,-2.032 15.747,-2.538 17.272,-2.538 17.78,-2.03 17.78,2.034
  text "27" at 17.018,-4.572 h1
  text "28" at 17.018,3.048 h1
  text "25" at 14.478,-4.572 h1
  text "26" at 14.478,3.048 h1
  text "23" at 11.938,-4.572 h1
  text "24" at 11.938,3.048 h1
  text "21" at 9.398,-4.144 h1
  text "22" at 9.398,3.048 h1
  text "19" at 6.858,-4.367 h1
  text "20" at 6.858,3.048 h1
  text "17" at 4.318,-4.415 h1
  text "18" at 4.318,3.048 h1
  text "15" at 1.778,-4.415 h1
  text "16" at 1.778,3.048 h1
  text "13" at -0.762,-4.415 h1
  text "14" at -0.762,3.048 h1
  text "11" at -3.302,-3.986 h1
  text "12" at -3.302,3.048 h1
  text "9" at -5.842,-3.634 h1
  text "10" at -5.842,3.048 h1
  text "7" at -8.382,-3.682 h1
  text "8" at -8.382,3.048 h1
  text "5" at -10.922,-3.682 h1
  text "6" at -10.922,3.048 h1
  text "3" at -13.462,-3.682 h1
  text "4" at -13.462,3.048 h1
  text "1" at -16.002,-3.253 h1
  text "2" at -16.002,3.048 h1
  text "2" at -16.002,3.048 h1
  text "1" at -16.002,-3.253 h1
3D body "PIN.STEP": height 8.43, standoff -2.49, extent -17.78,-2.54 -15.24,0
3D body "PIN_mid.STEP": height 8.43, standoff -2.49, extent -12.7,0 -10.16,2.54
3D body "PIN_mid.STEP": height 8.43, standoff -2.49, extent -10.16,0 -7.62,2.54
3D body "PIN_mid.STEP": height 8.43, standoff -2.49, extent -7.62,0 -5.08,2.54
3D body "PIN_mid.STEP": height 8.43, standoff -2.49, extent -5.08,0 -2.54,2.54
3D body "PIN_mid.STEP": height 8.43, standoff -2.49, extent -2.54,0 0,2.54
3D body "PIN_mid.STEP": height 8.43, standoff -2.49, extent 0,0 2.54,2.54
3D body "PIN_mid.STEP": height 8.43, standoff -2.49, extent 2.54,0 5.08,2.54
3D body "PIN_mid.STEP": height 8.43, standoff -2.49, extent 5.08,0 7.62,2.54
3D body "PIN_mid.STEP": height 8.43, standoff -2.49, extent 7.62,0 10.16,2.54
3D body "PIN_mid.STEP": height 8.43, standoff -2.49, extent 10.16,0 12.7,2.54
3D body "PIN_mid.STEP": height 8.43, standoff -2.49, extent 12.7,0 15.24,2.54
3D body "PIN_mid.STEP": height 8.43, standoff -2.49, extent -15.24,0 -12.7,2.54
3D body "PIN_mid.STEP": height 8.43, standoff -2.49, extent -15.24,-2.54 -12.7,0
3D body "PIN_mid.STEP": height 8.43, standoff -2.49, extent -12.7,-2.54 -10.16,0
3D body "PIN_mid.STEP": height 8.43, standoff -2.49, extent -10.16,-2.54 -7.62,0
3D body "PIN_mid.STEP": height 8.43, standoff -2.49, extent -7.62,-2.54 -5.08,0
3D body "PIN_mid.STEP": height 8.43, standoff -2.49, extent -5.08,-2.54 -2.54,0
3D body "PIN_mid.STEP": height 8.43, standoff -2.49, extent -2.54,-2.54 0,0
3D body "PIN_mid.STEP": height 8.43, standoff -2.49, extent 0,-2.54 2.54,0
3D body "PIN_mid.STEP": height 8.43, standoff -2.49, extent 2.54,-2.54 5.08,0
3D body "PIN_mid.STEP": height 8.43, standoff -2.49, extent 5.08,-2.54 7.62,0
3D body "PIN_mid.STEP": height 8.43, standoff -2.49, extent 7.62,-2.54 10.16,0
3D body "PIN_mid.STEP": height 8.43, standoff -2.49, extent 10.16,-2.54 12.7,0
3D body "PIN_mid.STEP": height 8.43, standoff -2.49, extent 12.7,-2.54 15.24,0
3D body "PIN.STEP": height 8.43, standoff -2.49, extent -17.78,0 -15.24,2.54
3D body "PIN.STEP": height 8.43, standoff -2.49, extent 15.24,0 17.78,2.54
3D body "PIN.STEP": height 8.43, standoff -2.49, extent 15.24,-2.54 17.78,0

## HDR_M_2X15 [mm] "Connector; Header; 15x2 Position"
pads (30):
  round 1.4 / inner round 1.4 / far side oval 1.4x2.2 hole 1: 1(-17.78,-1.27) 2(-17.78,1.27) 3(-15.24,-1.27) 4(-15.24,1.27) 5(-12.7,-1.27) 6(-12.7,1.27) 7(-10.16,-1.27) 8(-10.16,1.27) 9(-7.62,-1.27) 10(-7.62,1.27) 11(-5.08,-1.27) 12(-5.08,1.27) 13(-2.54,-1.27) 14(-2.54,1.27) 15(0,-1.27) 16(0,1.27) 17(2.54,-1.27) 18(2.54,1.27) 19(5.08,-1.27) 20(5.08,1.27) 21(7.62,-1.27) 22(7.62,1.27) 23(10.16,-1.27) 24(10.16,1.27) 25(12.7,-1.27) 26(12.7,1.27) 27(15.24,-1.27) 28(15.24,1.27) 29(17.78,-1.27) 30(17.78,1.27)
TopOverlay:
  circle w0.2: c-19.15,-2.87 r0.2
  lines w0.254: -16.51,-2.032 -16.003,-2.538 -14.478,-2.538 -13.97,-2.03 -13.97,2.034 -13.462,2.542 -11.939,2.542 -11.43,2.032 ; -16.51,2.032 -17.019,2.542 -18.542,2.542 -19.05,2.034 -19.05,-2.032 -18.543,-2.538 -17.018,-2.538 -16.51,-2.03 -16.51,2.034 -16.002,2.542 -14.479,2.542 -13.97,2.032 ; -13.97,-2.032 -13.463,-2.538 -11.938,-2.538 -11.43,-2.03 -11.43,2.034 -10.922,2.542 -9.399,2.542 -8.89,2.032 ; -11.43,-2.032 -10.923,-2.538 -9.398,-2.538 -8.89,-2.03 -8.89,2.034 -8.382,2.542 -6.859,2.542 -6.35,2.032 ; -8.89,-2.032 -8.383,-2.538 -6.858,-2.538 -6.35,-2.03 -6.35,2.034 -5.842,2.542 -4.319,2.542 -3.81,2.032 ; -6.35,-2.032 -5.843,-2.538 -4.318,-2.538 -3.81,-2.03 -3.81,2.034 -3.302,2.542 -1.779,2.542 -1.27,2.032 ; -3.81,-2.032 -3.303,-2.538 -1.778,-2.538 -1.27,-2.03 -1.27,2.034 -0.762,2.542 0.761,2.542 1.27,2.032 ; -1.27,-2.032 -0.763,-2.538 0.762,-2.538 1.27,-2.03 1.27,2.034 1.778,2.542 3.301,2.542 3.81,2.032 ; 1.27,-2.032 1.777,-2.538 3.302,-2.538 3.81,-2.03 3.81,2.034 4.318,2.542 5.841,2.542 6.35,2.032 ; 3.81,-2.032 4.317,-2.538 5.842,-2.538 6.35,-2.03 6.35,2.034 6.858,2.542 8.381,2.542 8.89,2.032 ; 6.35,-2.032 6.857,-2.538 8.382,-2.538 8.89,-2.03 8.89,2.034 9.398,2.542 10.921,2.542 11.43,2.032 ; 8.89,-2.032 9.397,-2.538 10.922,-2.538 11.43,-2.03 11.43,2.034 11.938,2.542 13.461,2.542 13.97,2.032 ; 11.43,-2.032 11.937,-2.538 13.462,-2.538 13.97,-2.03 13.97,2.034 14.478,2.542 16.001,2.542 16.51,2.032 ; 13.97,-2.032 14.477,-2.538 16.002,-2.538 16.51,-2.03 16.51,2.034 17.018,2.542 18.541,2.542 19.05,2.032 ; 16.51,-2.032 17.017,-2.538 18.542,-2.538 19.05,-2.03 19.05,2.034
  text "30" at 20.3,0.7 h0.8
  text "29" at 20.3,-2.03 h0.8
  text "2" at -20,0.9 h0.8
  text "1" at -19.8,-1.7 h0.8
3D body "Header 10.STEP": height 9.54, standoff -2, extent -6.33,-2.51 19.07,-0.02
3D body "Header 5.STEP": height 9.54, standoff -2, extent -19.03,-2.51 -6.33,-0.02
3D body "Header 10.STEP": height 9.54, standoff -2, extent -6.33,0.03 19.07,2.52
3D body "Header 5.STEP": height 9.54, standoff -2, extent -19.03,0.03 -6.33,2.52

## HDR_M_2X16 [mm] "Connector; Header; 16x2 Position"
pads (32):
  round 1.4 / inner round 1.4 / far side oval 1.4x2.2 hole 1: 1(-19.05,-1.27) 2(-19.05,1.27) 3(-16.51,-1.27) 4(-16.51,1.27) 5(-13.97,-1.27) 6(-13.97,1.27) 7(-11.43,-1.27) 8(-11.43,1.27) 9(-8.89,-1.27) 10(-8.89,1.27) 11(-6.35,-1.27) 12(-6.35,1.27) 13(-3.81,-1.27) 14(-3.81,1.27) 15(-1.27,-1.27) 16(-1.27,1.27) 17(1.27,-1.27) 18(1.27,1.27) 19(3.81,-1.27) 20(3.81,1.27) 21(6.35,-1.27) 22(6.35,1.27) 23(8.89,-1.27) 24(8.89,1.27) 25(11.43,-1.27) 26(11.43,1.27) 27(13.97,-1.27) 28(13.97,1.27) 29(16.51,-1.27) 30(16.51,1.27) 31(19.05,-1.27) 32(19.05,1.27)
TopOverlay:
  circle w0.2: c-20.42,-2.87 r0.2
  lines w0.254: -17.78,-2.032 -17.273,-2.538 -15.748,-2.538 -15.24,-2.03 -15.24,2.034 -14.732,2.542 -13.209,2.542 -12.7,2.032 ; -17.78,2.032 -18.289,2.542 -19.812,2.542 -20.32,2.034 -20.32,-2.032 -19.813,-2.538 -18.288,-2.538 -17.78,-2.03 -17.78,2.034 -17.272,2.542 -15.749,2.542 -15.24,2.032 ; -15.24,-2.032 -14.733,-2.538 -13.208,-2.538 -12.7,-2.03 -12.7,2.034 -12.192,2.542 -10.669,2.542 -10.16,2.032 ; -12.7,-2.032 -12.193,-2.538 -10.668,-2.538 -10.16,-2.03 -10.16,2.034 -9.652,2.542 -8.129,2.542 -7.62,2.032 ; -10.16,-2.032 -9.653,-2.538 -8.128,-2.538 -7.62,-2.03 -7.62,2.034 -7.112,2.542 -5.589,2.542 -5.08,2.032 ; -7.62,-2.032 -7.113,-2.538 -5.588,-2.538 -5.08,-2.03 -5.08,2.034 -4.572,2.542 -3.049,2.542 -2.54,2.032 ; -5.08,-2.032 -4.573,-2.538 -3.048,-2.538 -2.54,-2.03 -2.54,2.034 -2.032,2.542 -0.509,2.542 0,2.032 ; -2.54,-2.032 -2.033,-2.538 -0.508,-2.538 0,-2.03 0,2.034 0.508,2.542 2.031,2.542 2.54,2.032 ; 0,-2.032 0.507,-2.538 2.032,-2.538 2.54,-2.03 2.54,2.034 3.048,2.542 4.571,2.542 5.08,2.032 ; 2.54,-2.032 3.047,-2.538 4.572,-2.538 5.08,-2.03 5.08,2.034 5.588,2.542 7.111,2.542 7.62,2.032 ; 5.08,-2.032 5.587,-2.538 7.112,-2.538 7.62,-2.03 7.62,2.034 8.128,2.542 9.651,2.542 10.16,2.032 ; 7.62,-2.032 8.127,-2.538 9.652,-2.538 10.16,-2.03 10.16,2.034 10.668,2.542 12.191,2.542 12.7,2.032 ; 10.16,-2.032 10.667,-2.538 12.192,-2.538 12.7,-2.03 12.7,2.034 13.208,2.542 14.731,2.542 15.24,2.032 ; 12.7,-2.032 13.207,-2.538 14.732,-2.538 15.24,-2.03 15.24,2.034 15.748,2.542 17.271,2.542 17.78,2.032 ; 15.24,-2.032 15.747,-2.538 17.272,-2.538 17.78,-2.03 17.78,2.034 18.288,2.542 19.811,2.542 20.32,2.032 ; 17.78,-2.032 18.287,-2.538 19.812,-2.538 20.32,-2.03 20.32,2.034
  text "2" at -21.2,0.9 h0.8
  text "1" at -21,-1.7 h0.8
  text "31" at 21.5,-1.7 h0.8
  text "32" at 21.5,0.5 h0.8
3D body "Header 10.STEP": height 9.54, standoff -2, extent -5.1,-2.51 20.3,-0.02
3D body "Header 6.STEP": height 9.54, standoff -2, extent -20.34,-2.51 -5.1,-0.02
3D body "Header 10.STEP": height 9.54, standoff -2, extent -5.1,0.03 20.3,2.52
3D body "Header 6.STEP": height 9.54, standoff -2, extent -20.34,0.03 -5.1,2.52

## HDR_M_2X17 [mm] "Connector; Header; 17x2 Position"
pads (34):
  round 1.4 / inner round 1.4 / far side oval 1.4x2.2 hole 1: 1(-20.32,-1.27) 2(-20.32,1.27) 3(-17.78,-1.27) 4(-17.78,1.27) 5(-15.24,-1.27) 6(-15.24,1.27) 7(-12.7,-1.27) 8(-12.7,1.27) 9(-10.16,-1.27) 10(-10.16,1.27) 11(-7.62,-1.27) 12(-7.62,1.27) 13(-5.08,-1.27) 14(-5.08,1.27) 15(-2.54,-1.27) 16(-2.54,1.27) 17(0,-1.27) 18(0,1.27) 19(2.54,-1.27) 20(2.54,1.27) 21(5.08,-1.27) 22(5.08,1.27) 23(7.62,-1.27) 24(7.62,1.27) 25(10.16,-1.27) 26(10.16,1.27) 27(12.7,-1.27) 28(12.7,1.27) 29(15.24,-1.27) 30(15.24,1.27) 31(17.78,-1.27) 32(17.78,1.27) 33(20.32,-1.27) 34(20.32,1.27)
TopOverlay:
  circle w0.2: c-22.1,-2.4 r0.2
  lines w0.254: -19.05,-2.032 -18.543,-2.538 -17.018,-2.538 -16.51,-2.03 -16.51,2.034 -16.002,2.542 -14.479,2.542 -13.97,2.032 ; -19.05,2.032 -19.559,2.542 -21.082,2.542 -21.59,2.034 -21.59,-2.032 -21.083,-2.538 -19.558,-2.538 -19.05,-2.03 -19.05,2.034 -18.542,2.542 -17.019,2.542 -16.51,2.032 ; -16.51,-2.032 -16.003,-2.538 -14.478,-2.538 -13.97,-2.03 -13.97,2.034 -13.462,2.542 -11.939,2.542 -11.43,2.032 ; -13.97,-2.032 -13.463,-2.538 -11.938,-2.538 -11.43,-2.03 -11.43,2.034 -10.922,2.542 -9.399,2.542 -8.89,2.032 ; -11.43,-2.032 -10.923,-2.538 -9.398,-2.538 -8.89,-2.03 -8.89,2.034 -8.382,2.542 -6.859,2.542 -6.35,2.032 ; -8.89,-2.032 -8.383,-2.538 -6.858,-2.538 -6.35,-2.03 -6.35,2.034 -5.842,2.542 -4.319,2.542 -3.81,2.032 ; -6.35,-2.032 -5.843,-2.538 -4.318,-2.538 -3.81,-2.03 -3.81,2.034 -3.302,2.542 -1.779,2.542 -1.27,2.032 ; -3.81,-2.032 -3.303,-2.538 -1.778,-2.538 -1.27,-2.03 -1.27,2.034 -0.762,2.542 0.761,2.542 1.27,2.032 ; -1.27,-2.032 -0.763,-2.538 0.762,-2.538 1.27,-2.03 1.27,2.034 1.778,2.542 3.301,2.542 3.81,2.032 ; 1.27,-2.032 1.777,-2.538 3.302,-2.538 3.81,-2.03 3.81,2.034 4.318,2.542 5.841,2.542 6.35,2.032 ; 3.81,-2.032 4.317,-2.538 5.842,-2.538 6.35,-2.03 6.35,2.034 6.858,2.542 8.381,2.542 8.89,2.032 ; 6.35,-2.032 6.857,-2.538 8.382,-2.538 8.89,-2.03 8.89,2.034 9.398,2.542 10.921,2.542 11.43,2.032 ; 8.89,-2.032 9.397,-2.538 10.922,-2.538 11.43,-2.03 11.43,2.034 11.938,2.542 13.461,2.542 13.97,2.032 ; 11.43,-2.032 11.937,-2.538 13.462,-2.538 13.97,-2.03 13.97,2.034 14.478,2.542 16.001,2.542 16.51,2.032 ; 13.97,-2.032 14.477,-2.538 16.002,-2.538 16.51,-2.03 16.51,2.034 17.018,2.542 18.541,2.542 19.05,2.032 ; 16.51,-2.032 17.017,-2.538 18.542,-2.538 19.05,-2.03 19.05,2.034 19.558,2.542 21.081,2.542 21.59,2.032 ; 19.05,-2.032 19.557,-2.538 21.082,-2.538 21.59,-2.03 21.59,2.034
  text "34" at 22.8,0.7 h0.8
  text "33" at 22.8,-1.8 h0.8
  text "1" at -22.3,-1.7 h0.8
  text "2" at -22.5,0.8 h0.8
3D body "Header 6.STEP": height 9.54, standoff -2, extent -21.61,0.03 -6.37,2.52
3D body "Header 10.STEP": height 9.54, standoff -2, extent -6.37,0.03 19.03,2.52
3D body "Header 6.STEP": height 9.54, standoff -2, extent -21.61,-2.51 -6.37,-0.02
3D body "Header 10.STEP": height 9.54, standoff -2, extent -6.37,-2.51 19.03,-0.02
3D body "Header 2.STEP": height 9.54, standoff -2, extent 19.12,-2.54 21.61,2.54

## HDR_M_2X18 [mm] "Connector; Header; 18x2 Position"
height 7.5
pads (36):
  round 1.4 / inner round 1.4 / far side oval 1.4x2.2 hole 1: 1(-21.59,-1.27) 2(-21.59,1.27) 3(-19.05,-1.27) 4(-19.05,1.27) 5(-16.51,-1.27) 6(-16.51,1.27) 7(-13.97,-1.27) 8(-13.97,1.27) 9(-11.43,-1.27) 10(-11.43,1.27) 11(-8.89,-1.27) 12(-8.89,1.27) 13(-6.35,-1.27) 14(-6.35,1.27) 15(-3.81,-1.27) 16(-3.81,1.27) 17(-1.27,-1.27) 18(-1.27,1.27) 19(1.27,-1.27) 20(1.27,1.27) 21(3.81,-1.27) 22(3.81,1.27) 23(6.35,-1.27) 24(6.35,1.27) 25(8.89,-1.27) 26(8.89,1.27) 27(11.43,-1.27) 28(11.43,1.27) 29(13.97,-1.27) 30(13.97,1.27) 31(16.51,-1.27) 32(16.51,1.27) 33(19.05,-1.27) 34(19.05,1.27) 35(21.59,-1.27) 36(21.59,1.27)
TopOverlay:
  circle w0.2: c-23.2,-2.3 r0.2
  lines w0.152: -20.32,-1.905 -20.32,1.905 ; -20.32,-1.905 -19.685,-2.54 -18.415,-2.54 -17.78,-1.905 ; -20.32,-1.905 -20.955,-2.54 -22.225,-2.54 -22.86,-1.905 -22.86,1.905 -22.225,2.54 -20.955,2.54 -20.32,1.905 ; -20.32,1.905 -19.685,2.54 -18.415,2.54 -17.78,1.905 ; -17.78,-1.905 -17.145,-2.54 -15.875,-2.54 -15.24,-1.905 ; -17.78,-1.905 -17.78,1.905 ; -17.78,1.905 -17.145,2.54 -15.875,2.54 -15.24,1.905 ; -15.24,-1.905 -15.24,1.905 ; -15.24,-1.905 -14.605,-2.54 -13.335,-2.54 -12.7,-1.905 ; -15.24,1.905 -14.605,2.54 -13.335,2.54 -12.7,1.905 ; -12.7,-1.905 -12.065,-2.54 -10.795,-2.54 -10.16,-1.905 ; -12.7,-1.905 -12.7,1.905 ; -12.7,1.905 -12.065,2.54 -10.795,2.54 -10.16,1.905 ; -10.16,-1.905 -10.16,1.905 ; -10.16,-1.905 -9.525,-2.54 -8.255,-2.54 -7.62,-1.905 ; -10.16,1.905 -9.525,2.54 -8.255,2.54 -7.62,1.905 ; -7.62,-1.905 -6.985,-2.54 -5.715,-2.54 -5.08,-1.905 ; -7.62,-1.905 -7.62,1.905 ; -7.62,1.905 -6.985,2.54 -5.715,2.54 -5.08,1.905 ; -5.08,-1.905 -4.445,-2.54 -3.175,-2.54 -2.54,-1.905 ; -5.08,-1.905 -5.08,1.905 ; -5.08,1.905 -4.445,2.54 -3.175,2.54 -2.54,1.905 ; -2.54,-1.905 -1.905,-2.54 -0.635,-2.54 0,-1.905 ; -2.54,-1.905 -2.54,1.905 ; -2.54,1.905 -1.905,2.54 -0.635,2.54 0,1.905 ; 0,-1.905 0.635,-2.54 1.905,-2.54 2.54,-1.905 ; 0,-1.905 0,1.905 ; 0,1.905 0.635,2.54 1.905,2.54 2.54,1.905 ; 2.54,-1.905 2.54,1.905 ; 2.54,-1.905 3.175,-2.54 4.445,-2.54 5.08,-1.905 ; 2.54,1.905 3.175,2.54 4.445,2.54 5.08,1.905 ; 5.08,-1.905 5.715,-2.54 6.985,-2.54 7.62,-1.905 ; 5.08,-1.905 5.08,1.905 ; 5.08,1.905 5.715,2.54 6.985,2.54 7.62,1.905 ; 7.62,-1.905 7.62,1.905 ; 7.62,-1.905 8.255,-2.54 9.525,-2.54 10.16,-1.905 ; 7.62,1.905 8.255,2.54 9.525,2.54 10.16,1.905 ; 10.16,-1.905 10.795,-2.54 12.065,-2.54 12.7,-1.905 ; 10.16,-1.905 10.16,1.905 ; 10.16,1.905 10.795,2.54 12.065,2.54 12.7,1.905 ; 12.7,-1.905 12.7,1.905 ; 12.7,-1.905 13.335,-2.54 14.605,-2.54 15.24,-1.905 ; 12.7,1.905 13.335,2.54 14.605,2.54 15.24,1.905 ; 15.24,-1.905 15.875,-2.54 17.145,-2.54 17.78,-1.905 ; 15.24,-1.905 15.24,1.905 ; 15.24,1.905 15.875,2.54 17.145,2.54 17.78,1.905 ; 17.78,-1.905 17.78,1.905 ; 17.78,-1.905 18.415,-2.54 19.685,-2.54 20.32,-1.905 ; 17.78,1.905 18.415,2.54 19.685,2.54 20.32,1.905 ; 20.32,-1.905 20.32,1.905 ; 20.32,-1.905 20.955,-2.54 22.225,-2.54 22.86,-1.905 22.86,1.905 22.225,2.54 20.955,2.54 20.32,1.905
3D body "PLD-36.step": height 8.5, standoff -2.9, extent -22.86,-2.54 22.86,2.46

## HDR_M_2X19 [mm] "Connector; Header; 19x2 Position"
height 7.5
pads (38):
  round 1.4 / inner round 1.4 / far side oval 1.4x2.2 hole 1: 1(-24.13,-1.27) 2(-24.13,1.27) 3(-21.59,-1.27) 4(-21.59,1.27) 5(-19.05,-1.27) 6(-19.05,1.27) 7(-16.51,-1.27) 8(-16.51,1.27) 9(-13.97,-1.27) 10(-13.97,1.27) 11(-11.43,-1.27) 12(-11.43,1.27) 13(-8.89,-1.27) 14(-8.89,1.27) 15(-6.35,-1.27) 16(-6.35,1.27) 17(-3.81,-1.27) 18(-3.81,1.27) 19(-1.27,-1.27) 20(-1.27,1.27) 21(1.27,-1.27) 22(1.27,1.27) 23(3.81,-1.27) 24(3.81,1.27) 25(6.35,-1.27) 26(6.35,1.27) 27(8.89,-1.27) 28(8.89,1.27) 29(11.43,-1.27) 30(11.43,1.27) 31(13.97,-1.27) 32(13.97,1.27) 33(16.51,-1.27) 34(16.51,1.27) 35(19.05,-1.27) 36(19.05,1.27) 37(21.59,-1.27) 38(21.59,1.27)
TopOverlay:
  circle w0.2: c-25.5,-2.87 r0.2
  lines w0.152: -22.86,-1.905 -23.495,-2.54 -24.765,-2.54 -25.4,-1.905 -25.4,1.905 -24.765,2.54 -23.495,2.54 -22.86,1.905 ; -22.86,-1.905 -22.225,-2.54 -20.955,-2.54 -20.32,-1.905 ; -22.86,-1.905 -22.86,1.905 ; -22.86,1.905 -22.225,2.54 -20.955,2.54 -20.32,1.905 ; -20.32,-1.905 -20.32,1.905 ; -20.32,-1.905 -19.685,-2.54 -18.415,-2.54 -17.78,-1.905 ; -20.32,1.905 -19.685,2.54 -18.415,2.54 -17.78,1.905 ; -17.78,-1.905 -17.145,-2.54 -15.875,-2.54 -15.24,-1.905 ; -17.78,-1.905 -17.78,1.905 ; -17.78,1.905 -17.145,2.54 -15.875,2.54 -15.24,1.905 ; -15.24,-1.905 -15.24,1.905 ; -15.24,-1.905 -14.605,-2.54 -13.335,-2.54 -12.7,-1.905 ; -15.24,1.905 -14.605,2.54 -13.335,2.54 -12.7,1.905 ; -12.7,-1.905 -12.065,-2.54 -10.795,-2.54 -10.16,-1.905 ; -12.7,-1.905 -12.7,1.905 ; -12.7,1.905 -12.065,2.54 -10.795,2.54 -10.16,1.905 ; -10.16,-1.905 -10.16,1.905 ; -10.16,-1.905 -9.525,-2.54 -8.255,-2.54 -7.62,-1.905 ; -10.16,1.905 -9.525,2.54 -8.255,2.54 -7.62,1.905 ; -7.62,-1.905 -7.62,1.905 ; -7.62,-1.905 -6.985,-2.54 -5.715,-2.54 -5.08,-1.905 ; -7.62,1.905 -6.985,2.54 -5.715,2.54 -5.08,1.905 ; -5.08,-1.905 -5.08,1.905 ; -5.08,-1.905 -4.445,-2.54 -3.175,-2.54 -2.54,-1.905 ; -5.08,1.905 -4.445,2.54 -3.175,2.54 -2.54,1.905 ; -2.54,-1.905 -2.54,1.905 ; -2.54,-1.905 -1.905,-2.54 -0.635,-2.54 0,-1.905 ; -2.54,1.905 -1.905,2.54 -0.635,2.54 0,1.905 ; 0,-1.905 0.635,-2.54 1.905,-2.54 2.54,-1.905 ; 0,-1.905 0,1.905 ; 0,1.905 0.635,2.54 1.905,2.54 2.54,1.905 ; 2.54,-1.905 2.54,1.905 ; 2.54,-1.905 3.175,-2.54 4.445,-2.54 5.08,-1.905 ; 2.54,1.905 3.175,2.54 4.445,2.54 5.08,1.905 ; 5.08,-1.905 5.715,-2.54 6.985,-2.54 7.62,-1.905 ; 5.08,-1.905 5.08,1.905 ; 5.08,1.905 5.715,2.54 6.985,2.54 7.62,1.905 ; 7.62,-1.905 7.62,1.905 ; 7.62,-1.905 8.255,-2.54 9.525,-2.54 10.16,-1.905 ; 7.62,1.905 8.255,2.54 9.525,2.54 10.16,1.905 ; 10.16,-1.905 10.795,-2.54 12.065,-2.54 12.7,-1.905 ; 10.16,-1.905 10.16,1.905 ; 10.16,1.905 10.795,2.54 12.065,2.54 12.7,1.905 ; 12.7,-1.905 12.7,1.905 ; 12.7,-1.905 13.335,-2.54 14.605,-2.54 15.24,-1.905 ; 12.7,1.905 13.335,2.54 14.605,2.54 15.24,1.905 ; 15.24,-1.905 15.875,-2.54 17.145,-2.54 17.78,-1.905 ; 15.24,-1.905 15.24,1.905 ; 15.24,1.905 15.875,2.54 17.145,2.54 17.78,1.905 ; 17.78,-1.905 18.415,-2.54 19.685,-2.54 20.32,-1.905 ; 17.78,-1.905 17.78,1.905 ; 17.78,1.905 18.415,2.54 19.685,2.54 20.32,1.905 ; 20.32,-1.905 20.32,1.905 ; 20.32,-1.905 20.955,-2.54 22.225,-2.54 22.86,-1.905 22.86,1.905 22.225,2.54 20.955,2.54 20.32,1.905
3D body "PLD-38.step": height 8.5, standoff -2.9, extent -25.4,-2.5 22.86,2.5